# EAGLE library part TE-5-2172077-2 (library SAE_2019)
5-2172077-2 TE - Circular Metric Connectors M12 FMLE PNLREAR 8P ACODE PCBSTD RA SHLD
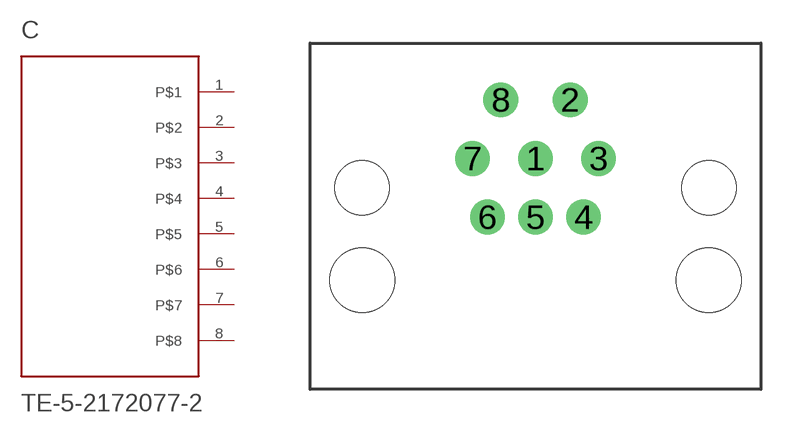
[diagram p7: symbol with the pads of TE-5-2172077-2; footprint TE-5-2172077-2]

Designator prefix C

## TE-5-2172077-2  [TE-5-2172077-2]
1  P$1
2  P$2
3  P$3
4  P$4
5  P$5
6  P$6
7  P$7
8  P$8

## Footprint TE-5-2172077-2 (pad centres in mm)
drill 1: 1 0,0; 2 1.5,2.54; 3 2.725,0; 4 2.075,-2.54; 5 0,-2.54; 6 -2.075,-2.54; 7 -2.725,0; 8 -1.5,2.54
hole 2.35 at -7.5,-1.27
hole 2.35 at 7.5,-1.27
hole 2.8 at -7.5,-5.27
hole 2.8 at 7.5,-5.27